# EAGLE library part MSP430_SMD (library PocketCube)
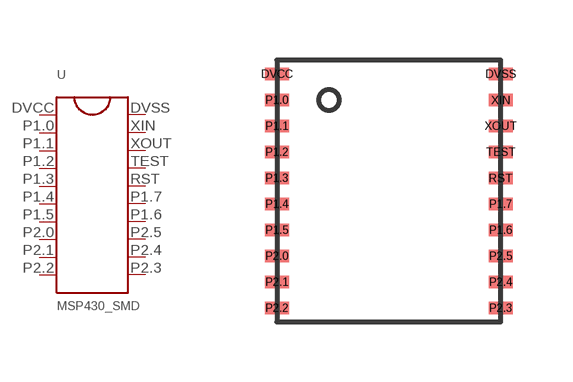
[diagram p2: symbol with the pads of MSP430_SMD; footprint MSP430_SMD]

Designator prefix -

## MSP430_SMD  [MSP430_SMD]
DVCC  DVCC
DVSS  DVSS
P1.0  P1.0
P1.1  P1.1
P1.2  P1.2
P1.3  P1.3
P1.4  P1.4
P1.5  P1.5
P1.6  P1.6
P1.7  P1.7
P2.0  P2.0
P2.1  P2.1
P2.2  P2.2
P2.3  P2.3
P2.4  P2.4
P2.5  P2.5
RST  RST
TEST  TEST
XIN  XIN
XOUT  XOUT

## Footprint MSP430_SMD (pad centres in mm)
smd 0.61 x 0.305: DVCC 0,6.5; DVSS 5.6,6.5; P1.0 0,5.85; P1.1 0,5.2; P1.2 0,4.55; P1.3 0,3.9; P1.4 0,3.25; P1.5 0,2.6; P1.6 5.6,2.6; P1.7 5.6,3.25; P2.0 0,1.95; P2.1 0,1.3; P2.2 0,0.65; P2.3 5.6,0.65; P2.4 5.6,1.3; P2.5 5.6,1.95; RST 5.6,3.9; TEST 5.6,4.55; XIN 5.6,5.85; XOUT 5.6,5.2